# EAGLE library part MP4575 (library my_ic)
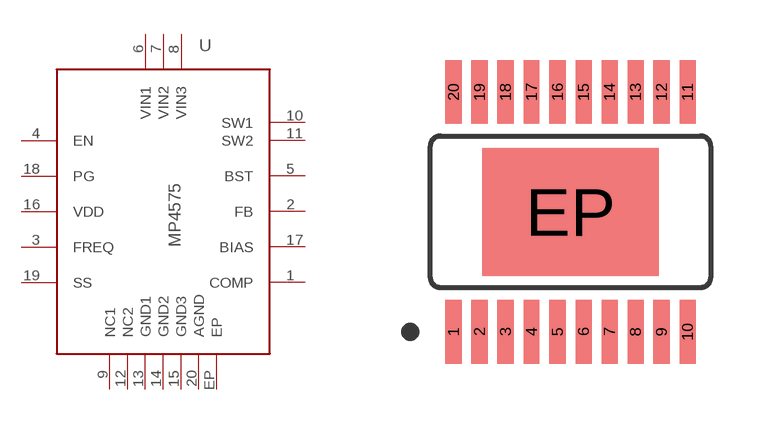
[diagram p34: symbol with the pads of TSSOP-20-EP; footprint TSSOP-20-EP]

Designator prefix -

## MP4575  [TSSOP-20-EP]
1  COMP
2  FB
3  FREQ
4  EN
5  BST
6  VIN1
7  VIN2
8  VIN3
9  NC1
10  SW1
11  SW2
12  NC2
13  GND1
14  GND2
15  GND3
16  VDD
17  BIAS
18  PG
19  SS
20  AGND
EP  EP

## Footprint TSSOP-20-EP (pad centres in mm)
smd 0.4 x 1.6: 1 -2.925,-3; 2 -2.275,-3; 3 -1.625,-3; 4 -0.975,-3; 5 -0.325,-3; 6 0.325,-3; 7 0.975,-3; 8 1.625,-3; 9 2.275,-3; 10 2.925,-3; 11 2.925,3; 12 2.275,3; 13 1.625,3; 14 0.975,3; 15 0.325,3; 16 -0.325,3; 17 -0.975,3; 18 -1.625,3; 19 -2.275,3; 20 -2.925,3
smd 4.4 x 3.2: EP 0,0